# Altium integrated library TI_Logic_Specialty_Logic.IntLib: 2504 symbols (part 30 of 81)
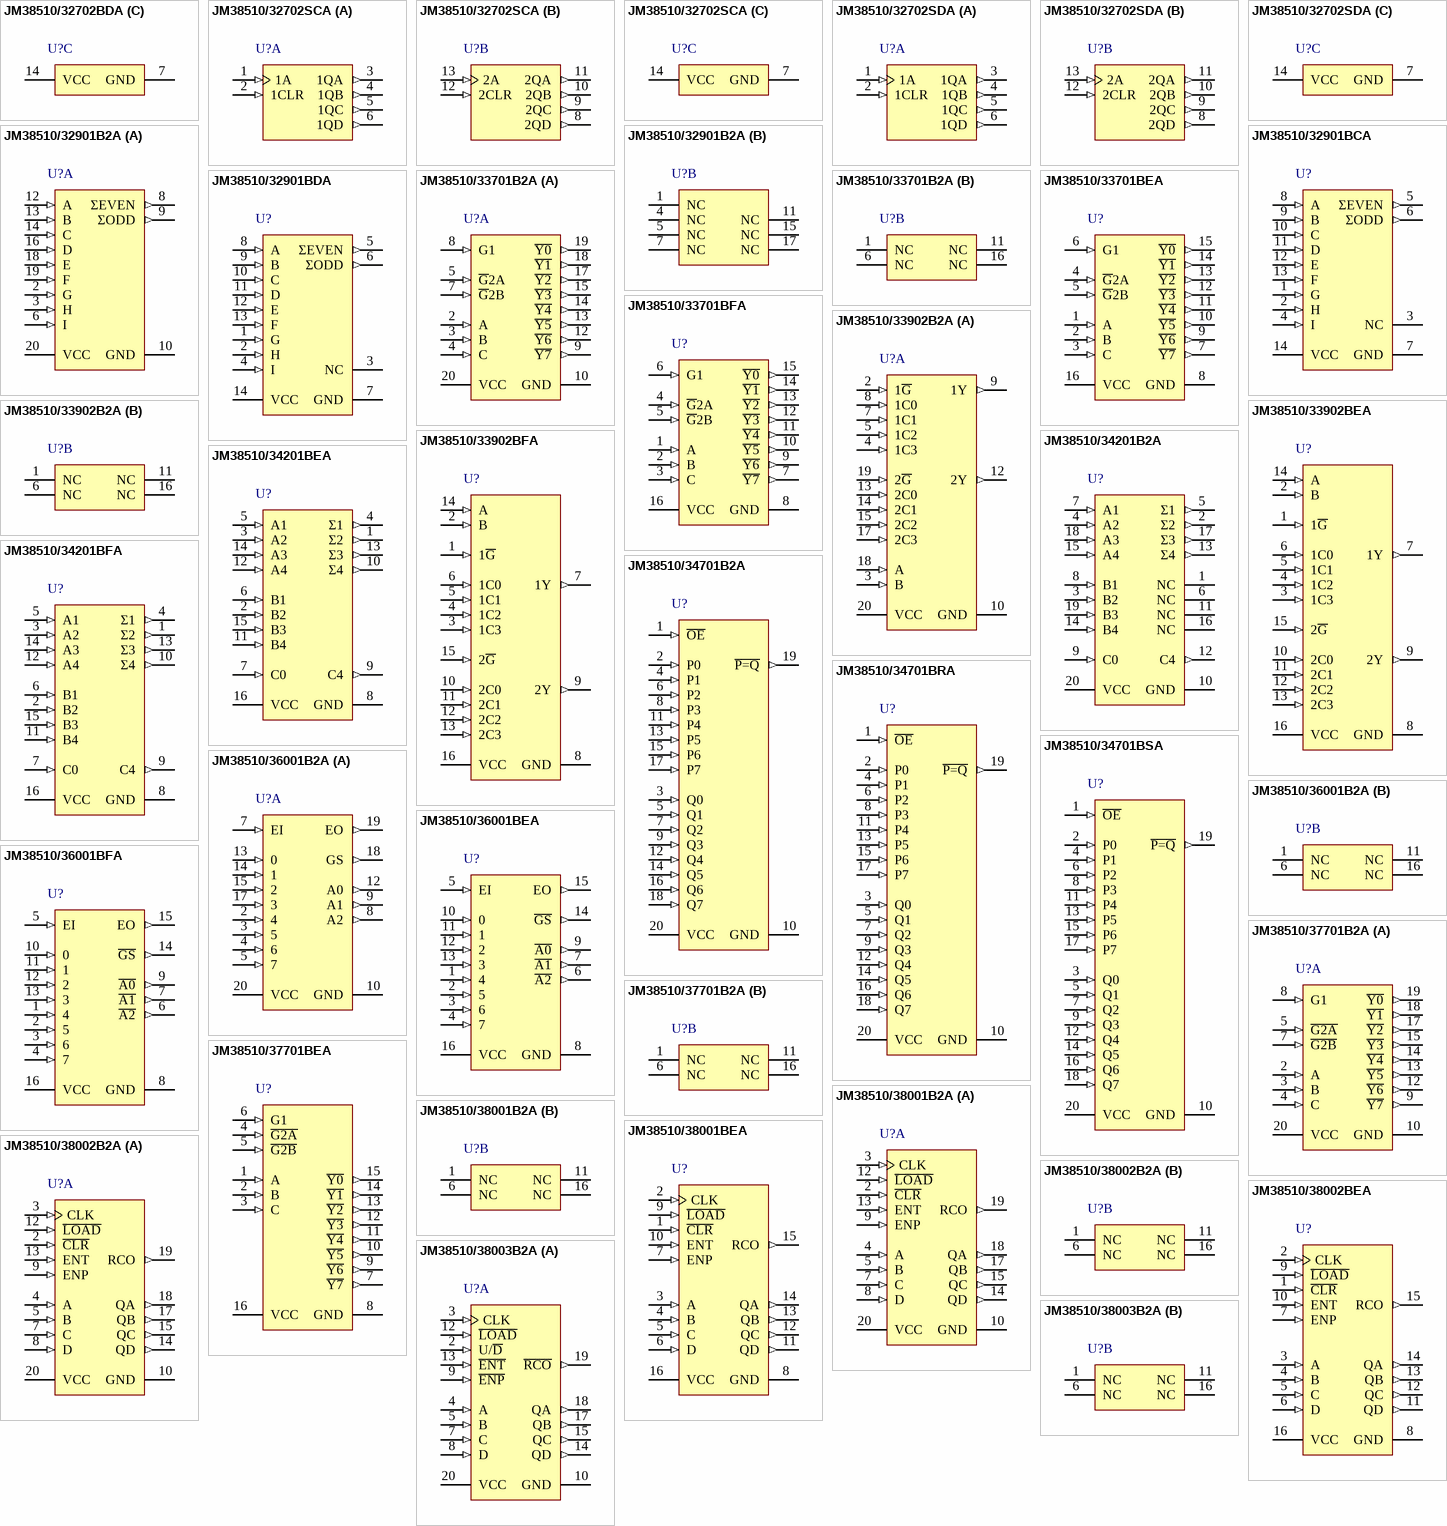
[diagram p133: symbols JM38510/32702BDA to JM38510/38003B2A]

## JM38510/34701BRA
designator U?
8-Bit Identity/Magnitude Comparators (P=Q) with Enable, J0020A, TUBE; Generic Part Number: SN54F521; Manufacturer: Texas Instruments; PartNumber: JM38510/34701BRA; VCC(Min)(V): 4.5; VCC(Max)(V): 5.5; Output Type: TTL; ICC @ Nom Voltage(Max)(mA): 32; Bits(#): 8; Rating: Military; Technology Family: F; Output Drive (IOL/IOH)(Max)(mA): 20/-1; tpd @ Nom Voltage(Max)(ns): 11; DatasheetVersion: SDFS091; PackageReference: J0020A; Input Type: TTL; Operating Temperature Range(C): -55 to 125; ComponentLink1Description: Manufacturer URL; ComponentLink1URL: http://www.ti.com/; ComponentLink2Description: Datasheet; ComponentLink2URL: http://www.ti.com/lit/ds/symlink/sn54f521.pdf
footprint J0020A (DIP, 20-Leads, Body 26.9x7.2mm, Pitch 2.54mm)
pins: 1 ~{OE} (in), 2 P0 (in), 3 Q0 (in), 4 P1 (in), 5 Q1 (in), 6 P2 (in), 7 Q2 (in), 8 P3 (in), 9 Q3 (in), 10 GND (power), 11 P4 (in), 12 Q4 (in), 13 P5 (in), 14 Q5 (in), 15 P6 (in), 16 Q6 (in), 17 P7 (in), 18 Q7 (in), 19 ~{P=Q} (out), 20 VCC (power)

## JM38510/34701BSA
designator U?
8-Bit Identity/Magnitude Comparators (P=Q) with Enable, W0020A, TUBE; Generic Part Number: SN54F521; Manufacturer: Texas Instruments; PartNumber: JM38510/34701BSA; VCC(Min)(V): 4.5; VCC(Max)(V): 5.5; Output Type: TTL; ICC @ Nom Voltage(Max)(mA): 32; Bits(#): 8; Rating: Military; Technology Family: F; Output Drive (IOL/IOH)(Max)(mA): 20/-1; tpd @ Nom Voltage(Max)(ns): 11; DatasheetVersion: SDFS091; PackageReference: W0020A; Input Type: TTL; Operating Temperature Range(C): -55 to 125; ComponentLink1Description: Manufacturer URL; ComponentLink1URL: http://www.ti.com/; ComponentLink2Description: Datasheet; ComponentLink2URL: http://www.ti.com/lit/ds/symlink/sn54f521.pdf
footprint W0020A_N (CFP, 20-Leads, Body 13.72x7.62mm, Pitch 1.27mm, IPC Medium Density)
footprint W0020A_M (CFP, 20-Leads, Body 13.72x7.62mm, Pitch 1.27mm, IPC Low Density)
footprint W0020A_L (CFP, 20-Leads, Body 13.72x7.62mm, Pitch 1.27mm, IPC High Density)
pins: 1 ~{OE} (in), 2 P0 (in), 3 Q0 (in), 4 P1 (in), 5 Q1 (in), 6 P2 (in), 7 Q2 (in), 8 P3 (in), 9 Q3 (in), 10 GND (power), 11 P4 (in), 12 Q4 (in), 13 P5 (in), 14 Q5 (in), 15 P6 (in), 16 Q6 (in), 17 P7 (in), 18 Q7 (in), 19 ~{P=Q} (out), 20 VCC (power)

## JM38510/36001B2A
designator U?
10-Line To 4-Line And 8-Line To 3-Line Priority Encoders, FK0020A, TUBE; Generic Part Number: SN54LS148; Manufacturer: Texas Instruments; PartNumber: JM38510/36001B2A; VCC(Min)(V): 4.5; VCC(Max)(V): 5.5; Rating: Military; Technology Family: LS; Schmitt Trigger: No; DatasheetVersion: SDLS053B; PackageReference: FK0020A; Operating Temperature Range(C): -55 to 125; Code_JEDEC: MS-004; ComponentLink1Description: Manufacturer URL; ComponentLink1URL: http://www.ti.com/; ComponentLink2Description: Datasheet; ComponentLink2URL: http://www.ti.com/lit/ds/symlink/sn54ls148.pdf; ComponentLink3Description: Package Specification; ComponentLink3URL: http://www.ti.com/lit/ml/mlcc006d/mlcc006d.pdf
footprint FK0020A_N (LCC, 20-Leads, Body 8.9x8.9mm, Pitch 1.27mm, IPC Medium Density)
footprint FK0020A_M (LCC, 20-Leads, Body 8.9x8.9mm, Pitch 1.27mm, IPC Low Density)
footprint FK0020A_L (LCC, 20-Leads, Body 8.9x8.9mm, Pitch 1.27mm, IPC High Density)
part A pins: 2 4 (in), 3 5 (in), 4 6 (in), 5 7 (in), 7 EI (in), 8 A2 (out), 9 A1 (out), 10 GND (power), 12 A0 (out), 13 0 (in), 14 1 (in), 15 2 (in), 17 3 (in), 18 GS (out), 19 EO (out), 20 VCC (power)
part B pins: 1 NC, 6 NC, 11 NC, 16 NC

## JM38510/36001BEA
designator U?
10-Line To 4-Line And 8-Line To 3-Line Priority Encoders, J0016A, TUBE; Generic Part Number: SN54LS148; Manufacturer: Texas Instruments; PartNumber: JM38510/36001BEA; VCC(Min)(V): 4.5; VCC(Max)(V): 5.5; Rating: Military; Technology Family: LS; Schmitt Trigger: No; DatasheetVersion: SDLS053B; PackageReference: J0016A; Operating Temperature Range(C): -55 to 125; ComponentLink1Description: Manufacturer URL; ComponentLink1URL: http://www.ti.com/; ComponentLink2Description: Datasheet; ComponentLink2URL: http://www.ti.com/lit/ds/symlink/sn54ls148.pdf; ComponentLink3Description: Package Specification; ComponentLink3URL: http://www.ti.com/lit/ml/mcer002d/mcer002d.pdf
footprint J0016A (DIP, 16-Leads, Body 21.35x7.2mm, Pitch 2.54mm)
pins: 1 4 (in), 2 5 (in), 3 6 (in), 4 7 (in), 5 EI (in), 6 ~{A2} (out), 7 ~{A1} (out), 8 GND (power), 9 ~{A0} (out), 10 0 (in), 11 1 (in), 12 2 (in), 13 3 (in), 14 ~{GS} (out), 15 EO (out), 16 VCC (power)

## JM38510/36001BFA
designator U?
10-Line To 4-Line And 8-Line To 3-Line Priority Encoders, W0016A, TUBE; Generic Part Number: SN54LS148; Manufacturer: Texas Instruments; PartNumber: JM38510/36001BFA; VCC(Min)(V): 4.5; VCC(Max)(V): 5.5; Rating: Military; Technology Family: LS; Schmitt Trigger: No; DatasheetVersion: SDLS053B; PackageReference: W0016A; Operating Temperature Range(C): -55 to 125; ComponentLink1Description: Manufacturer URL; ComponentLink1URL: http://www.ti.com/; ComponentLink2Description: Datasheet; ComponentLink2URL: http://www.ti.com/lit/ds/symlink/sn54ls148.pdf; ComponentLink3Description: Package Specification; ComponentLink3URL: http://www.ti.com/lit/ml/mcfp004c/mcfp004c.pdf
footprint W0016A_N (CFP, 16-Leads, Body 10.92x7.24mm, Pitch 1.27mm, IPC Medium Density)
footprint W0016A_M (CFP, 16-Leads, Body 10.92x7.24mm, Pitch 1.27mm, IPC Low Density)
footprint W0016A_L (CFP, 16-Leads, Body 10.92x7.24mm, Pitch 1.27mm, IPC High Density)
pins: 1 4 (in), 2 5 (in), 3 6 (in), 4 7 (in), 5 EI (in), 6 ~{A2} (out), 7 ~{A1} (out), 8 GND (power), 9 ~{A0} (out), 10 0 (in), 11 1 (in), 12 2 (in), 13 3 (in), 14 ~{GS} (out), 15 EO (out), 16 VCC (power)

## JM38510/37701B2A
designator U?
3-Line To 8-Line Decoders/Demultiplexers, FK0020A, TUBE; Generic Part Number: SN54ALS138A; Manufacturer: Texas Instruments; PartNumber: JM38510/37701B2A; VCC(Min)(V): 4.5; VCC(Max)(V): 5.5; Rating: Military; Technology Family: ALS; Schmitt Trigger: No; DatasheetVersion: SDAS055E; PackageReference: FK0020A; Operating Temperature Range(C): -55 to 125; Code_JEDEC: MS-004; ComponentLink1Description: Manufacturer URL; ComponentLink1URL: http://www.ti.com/; ComponentLink2Description: Datasheet; ComponentLink2URL: http://www.ti.com/lit/ds/symlink/sn54als138a.pdf; ComponentLink3Description: Package Specification; ComponentLink3URL: http://www.ti.com/lit/ml/mlcc006d/mlcc006d.pdf
footprint FK0020A_N (LCC, 20-Leads, Body 8.9x8.9mm, Pitch 1.27mm, IPC Medium Density)
footprint FK0020A_M (LCC, 20-Leads, Body 8.9x8.9mm, Pitch 1.27mm, IPC Low Density)
footprint FK0020A_L (LCC, 20-Leads, Body 8.9x8.9mm, Pitch 1.27mm, IPC High Density)
part A pins: 2 A (in), 3 B (in), 4 C (in), 5 ~{G2A} (in), 7 ~{G2B} (in), 8 G1 (in), 9 ~{Y7} (out), 10 GND (power), 12 ~{Y6} (out), 13 ~{Y5} (out), 14 ~{Y4} (out), 15 ~{Y3} (out), 17 ~{Y2} (out), 18 ~{Y1} (out), 19 ~{Y0} (out), 20 VCC (power)
part B pins: 1 NC, 6 NC, 11 NC, 16 NC

## JM38510/37701BEA
designator U?
3-Line To 8-Line Decoders/Demultiplexers, J0016A, TUBE; Generic Part Number: SN54ALS138A; Manufacturer: Texas Instruments; PartNumber: JM38510/37701BEA; VCC(Min)(V): 4.5; VCC(Max)(V): 5.5; Rating: Military; Technology Family: ALS; Schmitt Trigger: No; DatasheetVersion: SDAS055E; PackageReference: J0016A; Operating Temperature Range(C): -55 to 125; ComponentLink1Description: Manufacturer URL; ComponentLink1URL: http://www.ti.com/; ComponentLink2Description: Datasheet; ComponentLink2URL: http://www.ti.com/lit/ds/symlink/sn54als138a.pdf; ComponentLink3Description: Package Specification; ComponentLink3URL: http://www.ti.com/lit/ml/mcer002d/mcer002d.pdf
footprint J0016A (DIP, 16-Leads, Body 21.35x7.2mm, Pitch 2.54mm)
pins: 1 A (in), 2 B (in), 3 C (in), 4 ~{G2A} (in), 5 ~{G2B} (in), 6 G1 (in), 7 ~{Y7} (out), 8 GND (power), 9 ~{Y6} (out), 10 ~{Y5} (out), 11 ~{Y4} (out), 12 ~{Y3} (out), 13 ~{Y2} (out), 14 ~{Y1} (out), 15 ~{Y0} (out), 16 VCC (power)

## JM38510/38001B2A
designator U?
Synchronous 4-Bit Binary Counters, FK0020A, TUBE; Generic Part Number: SN54ALS161B; Manufacturer: Texas Instruments; PartNumber: JM38510/38001B2A; VCC(Min)(V): 4.5; VCC(Max)(V): 5.5; Inputs: 1; ICC @ Nom Voltage(Max)(mA): 21; Bits(#): 4; F @ Nom Voltage(Max)(Mhz): 75; Rating: Military; Technology Family: ALS; Output Drive (IOL/IOH)(Max)(mA): 8/-0.4; tpd @ Nom Voltage(Max)(ns): 20; DatasheetVersion: SDAS276A; PackageReference: FK0020A; Function: Counter; Operating Temperature Range(C): -55 to 125; Type: Binary; Code_JEDEC: MS-004; ComponentLink1Description: Manufacturer URL; ComponentLink1URL: http://www.ti.com/; ComponentLink2Description: Datasheet; ComponentLink2URL: http://www.ti.com/lit/ds/symlink/sn54als161b.pdf; ComponentLink3Description: Package Specification; ComponentLink3URL: http://www.ti.com/lit/ml/mlcc006d/mlcc006d.pdf
footprint FK0020A_N (LCC, 20-Leads, Body 8.9x8.9mm, Pitch 1.27mm, IPC Medium Density)
footprint FK0020A_M (LCC, 20-Leads, Body 8.9x8.9mm, Pitch 1.27mm, IPC Low Density)
footprint FK0020A_L (LCC, 20-Leads, Body 8.9x8.9mm, Pitch 1.27mm, IPC High Density)
part A pins: 2 ~{CLR} (in), 3 CLK (in), 4 A (in), 5 B (in), 7 C (in), 8 D (in), 9 ENP (in), 10 GND (power), 12 ~{LOAD} (in), 13 ENT (in), 14 QD (out), 15 QC (out), 17 QB (out), 18 QA (out), 19 RCO (out), 20 VCC (power)
part B pins: 1 NC, 6 NC, 11 NC, 16 NC

## JM38510/38001BEA
designator U?
Synchronous 4-Bit Binary Counters, J0016A, TUBE; Generic Part Number: SN54ALS161B; Manufacturer: Texas Instruments; PartNumber: JM38510/38001BEA; VCC(Min)(V): 4.5; VCC(Max)(V): 5.5; Inputs: 1; ICC @ Nom Voltage(Max)(mA): 21; Bits(#): 4; F @ Nom Voltage(Max)(Mhz): 75; Rating: Military; Technology Family: ALS; Output Drive (IOL/IOH)(Max)(mA): 8/-0.4; tpd @ Nom Voltage(Max)(ns): 20; DatasheetVersion: SDAS276A; PackageReference: J0016A; Function: Counter; Operating Temperature Range(C): -55 to 125; Type: Binary; ComponentLink1Description: Manufacturer URL; ComponentLink1URL: http://www.ti.com/; ComponentLink2Description: Datasheet; ComponentLink2URL: http://www.ti.com/lit/ds/symlink/sn54als161b.pdf; ComponentLink3Description: Package Specification; ComponentLink3URL: http://www.ti.com/lit/ml/mcer002d/mcer002d.pdf
footprint J0016A (DIP, 16-Leads, Body 21.35x7.2mm, Pitch 2.54mm)
pins: 1 ~{CLR} (in), 2 CLK (in), 3 A (in), 4 B (in), 5 C (in), 6 D (in), 7 ENP (in), 8 GND (power), 9 ~{LOAD} (in), 10 ENT (in), 11 QD (out), 12 QC (out), 13 QB (out), 14 QA (out), 15 RCO (out), 16 VCC (power)

## JM38510/38002B2A
designator U?
Synchronous 4-Bit Binary Counters, FK0020A, TUBE; Generic Part Number: SN54ALS163B; Manufacturer: Texas Instruments; PartNumber: JM38510/38002B2A; VCC(Min)(V): 4.5; VCC(Max)(V): 5.5; Inputs: 1; ICC @ Nom Voltage(Max)(mA): 21; Bits(#): 4; F @ Nom Voltage(Max)(Mhz): 75; Rating: Military; Technology Family: ALS; Output Drive (IOL/IOH)(Max)(mA): 8/-0.4; tpd @ Nom Voltage(Max)(ns): 20; DatasheetVersion: SDAS276A; PackageReference: FK0020A; Function: Counter; Operating Temperature Range(C): -55 to 125; Type: Binary; Code_JEDEC: MS-004; ComponentLink1Description: Manufacturer URL; ComponentLink1URL: http://www.ti.com/; ComponentLink2Description: Datasheet; ComponentLink2URL: http://www.ti.com/lit/ds/symlink/sn54als163b.pdf; ComponentLink3Description: Package Specification; ComponentLink3URL: http://www.ti.com/lit/ml/mlcc006d/mlcc006d.pdf
footprint FK0020A_N (LCC, 20-Leads, Body 8.9x8.9mm, Pitch 1.27mm, IPC Medium Density)
footprint FK0020A_M (LCC, 20-Leads, Body 8.9x8.9mm, Pitch 1.27mm, IPC Low Density)
footprint FK0020A_L (LCC, 20-Leads, Body 8.9x8.9mm, Pitch 1.27mm, IPC High Density)
part A pins: 2 ~{CLR} (in), 3 CLK (in), 4 A (in), 5 B (in), 7 C (in), 8 D (in), 9 ENP (in), 10 GND (power), 12 ~{LOAD} (in), 13 ENT (in), 14 QD (out), 15 QC (out), 17 QB (out), 18 QA (out), 19 RCO (out), 20 VCC (power)
part B pins: 1 NC, 6 NC, 11 NC, 16 NC

## JM38510/38002BEA
designator U?
Synchronous 4-Bit Binary Counters, J0016A, TUBE; Generic Part Number: SN54ALS163B; Manufacturer: Texas Instruments; PartNumber: JM38510/38002BEA; VCC(Min)(V): 4.5; VCC(Max)(V): 5.5; Inputs: 1; ICC @ Nom Voltage(Max)(mA): 21; Bits(#): 4; F @ Nom Voltage(Max)(Mhz): 75; Rating: Military; Technology Family: ALS; Output Drive (IOL/IOH)(Max)(mA): 8/-0.4; tpd @ Nom Voltage(Max)(ns): 20; DatasheetVersion: SDAS276A; PackageReference: J0016A; Function: Counter; Operating Temperature Range(C): -55 to 125; Type: Binary; ComponentLink1Description: Manufacturer URL; ComponentLink1URL: http://www.ti.com/; ComponentLink2Description: Datasheet; ComponentLink2URL: http://www.ti.com/lit/ds/symlink/sn54als163b.pdf; ComponentLink3Description: Package Specification; ComponentLink3URL: http://www.ti.com/lit/ml/mcer002d/mcer002d.pdf
footprint J0016A (DIP, 16-Leads, Body 21.35x7.2mm, Pitch 2.54mm)
pins: 1 ~{CLR} (in), 2 CLK (in), 3 A (in), 4 B (in), 5 C (in), 6 D (in), 7 ENP (in), 8 GND (power), 9 ~{LOAD} (in), 10 ENT (in), 11 QD (out), 12 QC (out), 13 QB (out), 14 QA (out), 15 RCO (out), 16 VCC (power)

## JM38510/38003B2A
designator U?
Synchronous 4-Bit Up/Down Binary Counters, FK0020A, TUBE; Generic Part Number: SN54ALS169B; Manufacturer: Texas Instruments; PartNumber: JM38510/38003B2A; VCC(Min)(V): 4.5; VCC(Max)(V): 5.5; Inputs: 1; ICC @ Nom Voltage(Max)(mA): 25; Bits(#): 4; F @ Nom Voltage(Max)(Mhz): 75; Rating: Military; Technology Family: ALS; Output Drive (IOL/IOH)(Max)(mA): 8/-0.4; tpd @ Nom Voltage(Max)(ns): 20; DatasheetVersion: SDAS125B; PackageReference: FK0020A; Function: Counter; Operating Temperature Range(C): -55 to 125; Type: Binary; Code_JEDEC: MS-004; ComponentLink1Description: Manufacturer URL; ComponentLink1URL: http://www.ti.com/; ComponentLink2Description: Datasheet; ComponentLink2URL: http://www.ti.com/lit/ds/symlink/sn54als169b.pdf; ComponentLink3Description: Package Specification; ComponentLink3URL: http://www.ti.com/lit/ml/mlcc006d/mlcc006d.pdf
footprint FK0020A_N (LCC, 20-Leads, Body 8.9x8.9mm, Pitch 1.27mm, IPC Medium Density)
footprint FK0020A_M (LCC, 20-Leads, Body 8.9x8.9mm, Pitch 1.27mm, IPC Low Density)
footprint FK0020A_L (LCC, 20-Leads, Body 8.9x8.9mm, Pitch 1.27mm, IPC High Density)
part A pins: 2 U/~{D} (in), 3 CLK (in), 4 A (in), 5 B (in), 7 C (in), 8 D (in), 9 ~{ENP} (in), 10 GND (power), 12 ~{LOAD} (in), 13 ~{ENT} (in), 14 QD (out), 15 QC (out), 17 QB (out), 18 QA (out), 19 ~{RCO} (out), 20 VCC (power)
part B pins: 1 NC, 6 NC, 11 NC, 16 NC

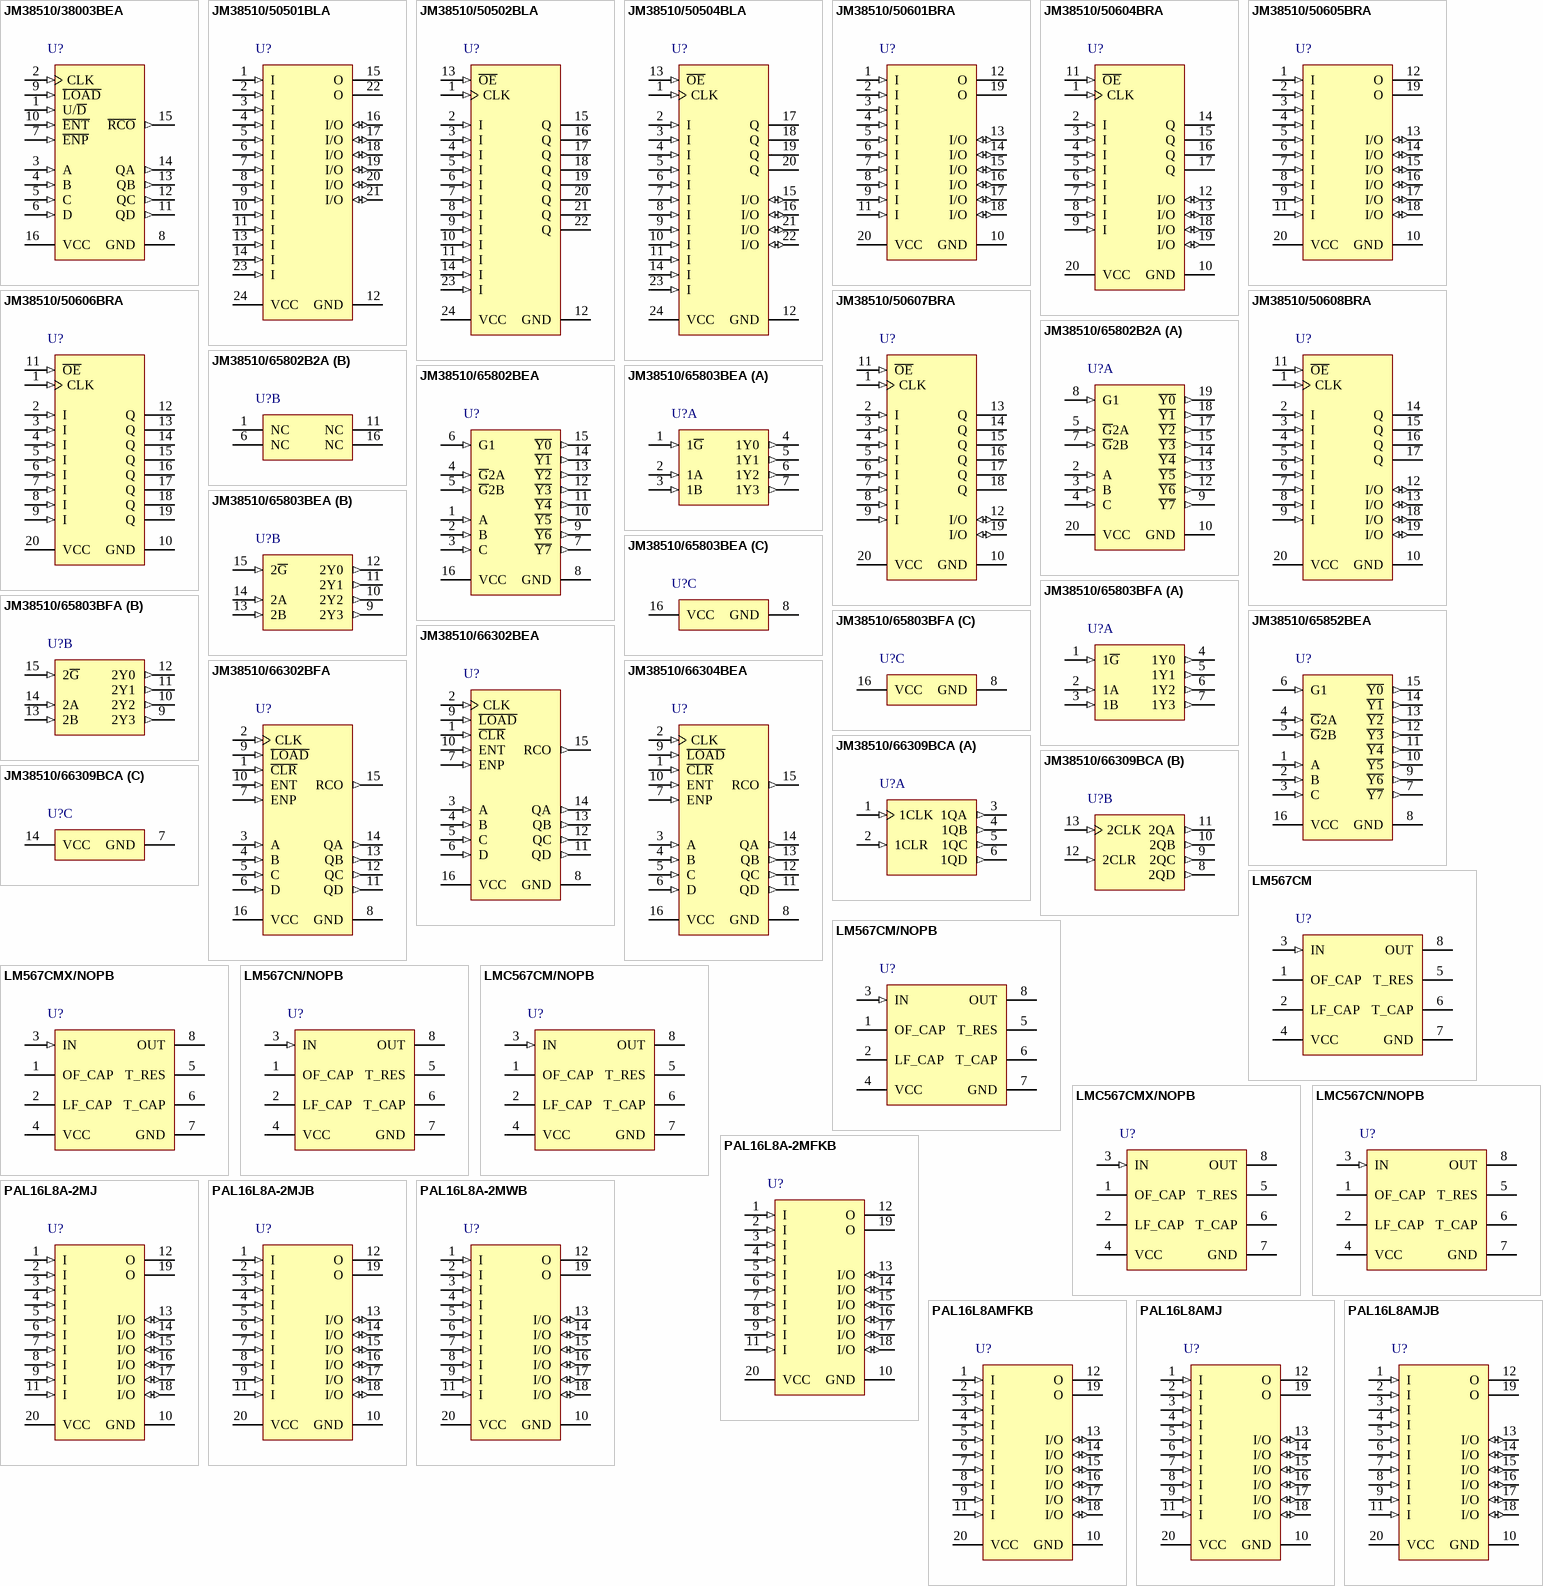
[diagram p41: symbols JM38510/38003BEA to PAL16L8AMJB]

## JM38510/38003BEA
designator U?
Synchronous 4-Bit Up/Down Binary Counters, J0016A, TUBE; Generic Part Number: SN54ALS169B; Manufacturer: Texas Instruments; PartNumber: JM38510/38003BEA; VCC(Min)(V): 4.5; VCC(Max)(V): 5.5; Inputs: 1; ICC @ Nom Voltage(Max)(mA): 25; Bits(#): 4; F @ Nom Voltage(Max)(Mhz): 75; Rating: Military; Technology Family: ALS; Output Drive (IOL/IOH)(Max)(mA): 8/-0.4; tpd @ Nom Voltage(Max)(ns): 20; DatasheetVersion: SDAS125B; PackageReference: J0016A; Function: Counter; Operating Temperature Range(C): -55 to 125; Type: Binary; ComponentLink1Description: Manufacturer URL; ComponentLink1URL: http://www.ti.com/; ComponentLink2Description: Datasheet; ComponentLink2URL: http://www.ti.com/lit/ds/symlink/sn54als169b.pdf; ComponentLink3Description: Package Specification; ComponentLink3URL: http://www.ti.com/lit/ml/mcer002d/mcer002d.pdf
footprint J0016A (DIP, 16-Leads, Body 21.35x7.2mm, Pitch 2.54mm)
pins: 1 U/~{D} (in), 2 CLK (in), 3 A (in), 4 B (in), 5 C (in), 6 D (in), 7 ~{ENP} (in), 8 GND (power), 9 ~{LOAD} (in), 10 ~{ENT} (in), 11 QD (out), 12 QC (out), 13 QB (out), 14 QA (out), 15 ~{RCO} (out), 16 VCC (power)

## JM38510/50501BLA
designator U?
High-Performance Impact<TM> PAL<R> Circuits, JT0024A, TUBE; Generic Part Number: TIBPAL20L8-20M; Manufacturer: Texas Instruments; PartNumber: JM38510/50501BLA; Voltage Node(Nom)(V): 5; Rating: Military; DatasheetVersion: SRPS021A; PackageReference: JT0024A; Operating Temperature Range(C): -55 to 125; ComponentLink1Description: Manufacturer URL; ComponentLink1URL: http://www.ti.com/; ComponentLink2Description: Datasheet; ComponentLink2URL: http://www.ti.com/lit/ds/symlink/tibpal20l8-20m.pdf
footprint JT0024A (DIP, 24-Leads, Body 7.2x32.5mm, Pitch 2.54mm)
pins: 1 I (in), 2 I (in), 3 I (in), 4 I (in), 5 I (in), 6 I (in), 7 I (in), 8 I (in), 9 I (in), 10 I (in), 11 I (in), 12 GND (power), 13 I (in), 14 I (in), 15 O (hiz), 16 I/O (io), 17 I/O (io), 18 I/O (io), 19 I/O (io), 20 I/O (io), 21 I/O (io), 22 O (hiz), 23 I (in), 24 VCC (power)

## JM38510/50502BLA
designator U?
High-Performance Impact<TM> PAL<R> Circuits, JT0024A, TUBE; Generic Part Number: TIBPAL20R8-20M; Manufacturer: Texas Instruments; PartNumber: JM38510/50502BLA; Voltage Node(Nom)(V): 5; Rating: Military; DatasheetVersion: SRPS021A; PackageReference: JT0024A; Operating Temperature Range(C): -55 to 125; ComponentLink1Description: Manufacturer URL; ComponentLink1URL: http://www.ti.com/; ComponentLink2Description: Datasheet; ComponentLink2URL: http://www.ti.com/lit/ds/symlink/tibpal20r8-20m.pdf
footprint JT0024A (DIP, 24-Leads, Body 7.2x32.5mm, Pitch 2.54mm)
pins: 1 CLK (in), 2 I (in), 3 I (in), 4 I (in), 5 I (in), 6 I (in), 7 I (in), 8 I (in), 9 I (in), 10 I (in), 11 I (in), 12 GND (power), 13 ~{OE} (in), 14 I (in), 15 Q (hiz), 16 Q (hiz), 17 Q (hiz), 18 Q (hiz), 19 Q (hiz), 20 Q (hiz), 21 Q (hiz), 22 Q (hiz), 23 I (in), 24 VCC (power)

## JM38510/50504BLA
designator U?
High-Performance Impact<TM> PAL<R> Circuits, JT0024A, TUBE; Generic Part Number: TIBPAL20R4-20M; Manufacturer: Texas Instruments; PartNumber: JM38510/50504BLA; Voltage Node(Nom)(V): 5; Rating: Military; DatasheetVersion: SRPS021A; PackageReference: JT0024A; Operating Temperature Range(C): -55 to 125; ComponentLink1Description: Manufacturer URL; ComponentLink1URL: http://www.ti.com/; ComponentLink2Description: Datasheet; ComponentLink2URL: http://www.ti.com/lit/ds/symlink/tibpal20r4-20m.pdf
footprint JT0024A (DIP, 24-Leads, Body 7.2x32.5mm, Pitch 2.54mm)
pins: 1 CLK (in), 2 I (in), 3 I (in), 4 I (in), 5 I (in), 6 I (in), 7 I (in), 8 I (in), 9 I (in), 10 I (in), 11 I (in), 12 GND (power), 13 ~{OE} (in), 14 I (in), 15 I/O (io), 16 I/O (io), 17 Q (hiz), 18 Q (hiz), 19 Q (hiz), 20 Q (hiz), 21 I/O (io), 22 I/O (io), 23 I (in), 24 VCC (power)

## JM38510/50601BRA
designator U?
High-Performance Impact<TM> PAL<R> Circuits, J0020A, TUBE; Generic Part Number: TIBPAL16L8-20M; Manufacturer: Texas Instruments; PartNumber: JM38510/50601BRA; Voltage Node(Nom)(V): 5; Rating: Military; DatasheetVersion: SRPS019A; PackageReference: J0020A; Operating Temperature Range(C): -55 to 125; ComponentLink1Description: Manufacturer URL; ComponentLink1URL: http://www.ti.com/; ComponentLink2Description: Datasheet; ComponentLink2URL: http://www.ti.com/lit/ds/symlink/tibpal16l8-20m.pdf
footprint J0020A (DIP, 20-Leads, Body 26.9x7.2mm, Pitch 2.54mm)
pins: 1 I (in), 2 I (in), 3 I (in), 4 I (in), 5 I (in), 6 I (in), 7 I (in), 8 I (in), 9 I (in), 10 GND (power), 11 I (in), 12 O (hiz), 13 I/O (io), 14 I/O (io), 15 I/O (io), 16 I/O (io), 17 I/O (io), 18 I/O (io), 19 O (hiz), 20 VCC (power)

## JM38510/50604BRA
designator U?
High-Performance Impact<TM> PAL<R> Circuits, J0020A, TUBE; Generic Part Number: TIBPAL16R4-20M; Manufacturer: Texas Instruments; PartNumber: JM38510/50604BRA; Voltage Node(Nom)(V): 5; Rating: Military; DatasheetVersion: SRPS019A; PackageReference: J0020A; Operating Temperature Range(C): -55 to 125; ComponentLink1Description: Manufacturer URL; ComponentLink1URL: http://www.ti.com/; ComponentLink2Description: Datasheet; ComponentLink2URL: http://www.ti.com/lit/ds/symlink/tibpal16r4-20m.pdf
footprint J0020A (DIP, 20-Leads, Body 26.9x7.2mm, Pitch 2.54mm)
pins: 1 CLK (in), 2 I (in), 3 I (in), 4 I (in), 5 I (in), 6 I (in), 7 I (in), 8 I (in), 9 I (in), 10 GND (power), 11 ~{OE} (in), 12 I/O (io), 13 I/O (io), 14 Q (hiz), 15 Q (hiz), 16 Q (hiz), 17 Q (hiz), 18 I/O (io), 19 I/O (io), 20 VCC (power)

## JM38510/50605BRA
designator U?
Low-Power High-Performance Impact<TM> PAL<R> Circuits, J0020A, TUBE; Generic Part Number: TIBPAL16L8-30M; Manufacturer: Texas Instruments; PartNumber: JM38510/50605BRA; Voltage Node(Nom)(V): 5; Rating: Military; DatasheetVersion: SRPS059A; PackageReference: J0020A; Operating Temperature Range(C): -55 to 125; ComponentLink1Description: Manufacturer URL; ComponentLink1URL: http://www.ti.com/; ComponentLink2Description: Datasheet; ComponentLink2URL: http://www.ti.com/lit/ds/symlink/tibpal16l8-30m.pdf
footprint J0020A (DIP, 20-Leads, Body 26.9x7.2mm, Pitch 2.54mm)
pins: 1 I (in), 2 I (in), 3 I (in), 4 I (in), 5 I (in), 6 I (in), 7 I (in), 8 I (in), 9 I (in), 10 GND (power), 11 I (in), 12 O (hiz), 13 I/O (io), 14 I/O (io), 15 I/O (io), 16 I/O (io), 17 I/O (io), 18 I/O (io), 19 O (hiz), 20 VCC (power)

## JM38510/50606BRA
designator U?
Low-Power High-Performance Impact<TM> PAL<R> Circuits, J0020A, TUBE; Generic Part Number: TIBPAL16R8-30M; Manufacturer: Texas Instruments; PartNumber: JM38510/50606BRA; Voltage Node(Nom)(V): 5; Rating: Military; DatasheetVersion: SRPS059A; PackageReference: J0020A; Operating Temperature Range(C): -55 to 125; ComponentLink1Description: Manufacturer URL; ComponentLink1URL: http://www.ti.com/; ComponentLink2Description: Datasheet; ComponentLink2URL: http://www.ti.com/lit/ds/symlink/tibpal16r8-30m.pdf
footprint J0020A (DIP, 20-Leads, Body 26.9x7.2mm, Pitch 2.54mm)
pins: 1 CLK (in), 2 I (in), 3 I (in), 4 I (in), 5 I (in), 6 I (in), 7 I (in), 8 I (in), 9 I (in), 10 GND (power), 11 ~{OE} (in), 12 Q (hiz), 13 Q (hiz), 14 Q (hiz), 15 Q (hiz), 16 Q (hiz), 17 Q (hiz), 18 Q (hiz), 19 Q (hiz), 20 VCC (power)

## JM38510/50607BRA
designator U?
Low-Power High-Performance Impact<TM> PAL<R> Circuits, J0020A, TUBE; Generic Part Number: TIBPAL16R6-30M; Manufacturer: Texas Instruments; PartNumber: JM38510/50607BRA; Voltage Node(Nom)(V): 5; Rating: Military; DatasheetVersion: SRPS059A; PackageReference: J0020A; Operating Temperature Range(C): -55 to 125; ComponentLink1Description: Manufacturer URL; ComponentLink1URL: http://www.ti.com/; ComponentLink2Description: Datasheet; ComponentLink2URL: http://www.ti.com/lit/ds/symlink/tibpal16r6-30m.pdf
footprint J0020A (DIP, 20-Leads, Body 26.9x7.2mm, Pitch 2.54mm)
pins: 1 CLK (in), 2 I (in), 3 I (in), 4 I (in), 5 I (in), 6 I (in), 7 I (in), 8 I (in), 9 I (in), 10 GND (power), 11 ~{OE} (in), 12 I/O (io), 13 Q (hiz), 14 Q (hiz), 15 Q (hiz), 16 Q (hiz), 17 Q (hiz), 18 Q (hiz), 19 I/O (io), 20 VCC (power)

## JM38510/50608BRA
designator U?
Low-Power High-Performance Impact<TM> PAL<R> Circuits, J0020A, TUBE; Generic Part Number: TIBPAL16R4-30M; Manufacturer: Texas Instruments; PartNumber: JM38510/50608BRA; Voltage Node(Nom)(V): 5; Rating: Military; DatasheetVersion: SRPS059A; PackageReference: J0020A; Operating Temperature Range(C): -55 to 125; ComponentLink1Description: Manufacturer URL; ComponentLink1URL: http://www.ti.com/; ComponentLink2Description: Datasheet; ComponentLink2URL: http://www.ti.com/lit/ds/symlink/tibpal16r4-30m.pdf
footprint J0020A (DIP, 20-Leads, Body 26.9x7.2mm, Pitch 2.54mm)
pins: 1 CLK (in), 2 I (in), 3 I (in), 4 I (in), 5 I (in), 6 I (in), 7 I (in), 8 I (in), 9 I (in), 10 GND (power), 11 ~{OE} (in), 12 I/O (io), 13 I/O (io), 14 Q (hiz), 15 Q (hiz), 16 Q (hiz), 17 Q (hiz), 18 I/O (io), 19 I/O (io), 20 VCC (power)

## JM38510/65802B2A
designator U?
3-Line To 8-Line Decoders/Demultiplexers, FK0020A, TUBE; Generic Part Number: SN54HC138; Manufacturer: Texas Instruments; PartNumber: JM38510/65802B2A; VCC(Min)(V): 2; VCC(Max)(V): 6; Rating: Military; Technology Family: HC; Schmitt Trigger: No; DatasheetVersion: SCLS107E; PackageReference: FK0020A; Operating Temperature Range(C): -55 to 125; Code_JEDEC: MS-004; ComponentLink1Description: Manufacturer URL; ComponentLink1URL: http://www.ti.com/; ComponentLink2Description: Datasheet; ComponentLink2URL: http://www.ti.com/lit/ds/symlink/sn54hc138.pdf; ComponentLink3Description: Package Specification; ComponentLink3URL: http://www.ti.com/lit/ml/mlcc006d/mlcc006d.pdf
footprint FK0020A_N (LCC, 20-Leads, Body 8.9x8.9mm, Pitch 1.27mm, IPC Medium Density)
footprint FK0020A_M (LCC, 20-Leads, Body 8.9x8.9mm, Pitch 1.27mm, IPC Low Density)
footprint FK0020A_L (LCC, 20-Leads, Body 8.9x8.9mm, Pitch 1.27mm, IPC High Density)
part A pins: 2 A (in), 3 B (in), 4 C (in), 5 ~{G}2A (in), 7 ~{G}2B (in), 8 G1 (in), 9 ~{Y7} (out), 10 GND (power), 12 ~{Y6} (out), 13 ~{Y5} (out), 14 ~{Y4} (out), 15 ~{Y3} (out), 17 ~{Y2} (out), 18 ~{Y1} (out), 19 ~{Y0} (out), 20 VCC (power)
part B pins: 1 NC, 6 NC, 11 NC, 16 NC

## JM38510/65802BEA
designator U?
3-Line To 8-Line Decoders/Demultiplexers, J0016A, TUBE; Generic Part Number: SN54HC138; Manufacturer: Texas Instruments; PartNumber: JM38510/65802BEA; VCC(Min)(V): 2; VCC(Max)(V): 6; Rating: Military; Technology Family: HC; Schmitt Trigger: No; DatasheetVersion: SCLS107E; PackageReference: J0016A; Operating Temperature Range(C): -55 to 125; ComponentLink1Description: Manufacturer URL; ComponentLink1URL: http://www.ti.com/; ComponentLink2Description: Datasheet; ComponentLink2URL: http://www.ti.com/lit/ds/symlink/sn54hc138.pdf; ComponentLink3Description: Package Specification; ComponentLink3URL: http://www.ti.com/lit/ml/mcer002d/mcer002d.pdf
footprint J0016A (DIP, 16-Leads, Body 21.35x7.2mm, Pitch 2.54mm)
pins: 1 A (in), 2 B (in), 3 C (in), 4 ~{G}2A (in), 5 ~{G}2B (in), 6 G1 (in), 7 ~{Y7} (out), 8 GND (power), 9 ~{Y6} (out), 10 ~{Y5} (out), 11 ~{Y4} (out), 12 ~{Y3} (out), 13 ~{Y2} (out), 14 ~{Y1} (out), 15 ~{Y0} (out), 16 VCC (power)

## JM38510/65803BEA
designator U?
Dual 2-Line To 4-Line Decoders/Demultiplexers, J0016A, TUBE; Generic Part Number: SN54HC139; Manufacturer: Texas Instruments; PartNumber: JM38510/65803BEA; VCC(Min)(V): 2; VCC(Max)(V): 6; Rating: Military; Technology Family: HC; Schmitt Trigger: No; DatasheetVersion: SCLS108D; PackageReference: J0016A; Operating Temperature Range(C): -55 to 125; ComponentLink1Description: Manufacturer URL; ComponentLink1URL: http://www.ti.com/; ComponentLink2Description: Datasheet; ComponentLink2URL: http://www.ti.com/lit/ds/symlink/sn54hc139.pdf; ComponentLink3Description: Package Specification; ComponentLink3URL: http://www.ti.com/lit/ml/mcer002d/mcer002d.pdf
footprint J0016A (DIP, 16-Leads, Body 21.35x7.2mm, Pitch 2.54mm)
part A pins: 1 1~{G} (in), 2 1A (in), 3 1B (in), 4 1Y0 (out), 5 1Y1 (out), 6 1Y2 (out), 7 1Y3 (out)
part B pins: 9 2Y3 (out), 10 2Y2 (out), 11 2Y1 (out), 12 2Y0 (out), 13 2B (in), 14 2A (in), 15 2~{G} (in)
part C pins: 8 GND (power), 16 VCC (power)

## JM38510/65803BFA
designator U?
Dual 2-Line To 4-Line Decoders/Demultiplexers, W0016A, TUBE; Generic Part Number: SN54HC139; Manufacturer: Texas Instruments; PartNumber: JM38510/65803BFA; VCC(Min)(V): 2; VCC(Max)(V): 6; Rating: Military; Technology Family: HC; Schmitt Trigger: No; DatasheetVersion: SCLS108D; PackageReference: W0016A; Operating Temperature Range(C): -55 to 125; ComponentLink1Description: Manufacturer URL; ComponentLink1URL: http://www.ti.com/; ComponentLink2Description: Datasheet; ComponentLink2URL: http://www.ti.com/lit/ds/symlink/sn54hc139.pdf; ComponentLink3Description: Package Specification; ComponentLink3URL: http://www.ti.com/lit/ml/mcfp004c/mcfp004c.pdf
footprint W0016A_N (CFP, 16-Leads, Body 10.92x7.24mm, Pitch 1.27mm, IPC Medium Density)
footprint W0016A_M (CFP, 16-Leads, Body 10.92x7.24mm, Pitch 1.27mm, IPC Low Density)
footprint W0016A_L (CFP, 16-Leads, Body 10.92x7.24mm, Pitch 1.27mm, IPC High Density)
part A pins: 1 1~{G} (in), 2 1A (in), 3 1B (in), 4 1Y0 (out), 5 1Y1 (out), 6 1Y2 (out), 7 1Y3 (out)
part B pins: 9 2Y3 (out), 10 2Y2 (out), 11 2Y1 (out), 12 2Y0 (out), 13 2B (in), 14 2A (in), 15 2~{G} (in)
part C pins: 8 GND (power), 16 VCC (power)

## JM38510/65852BEA
designator U?
3-Line To 8-Line Decoders/Demultiplexers, J0016A, TUBE; Generic Part Number: SN54HCT138; Manufacturer: Texas Instruments; PartNumber: JM38510/65852BEA; VCC(Min)(V): 4.5; VCC(Max)(V): 5.5; Rating: Military; Technology Family: HCT; Schmitt Trigger: No; DatasheetVersion: SCLS171E; PackageReference: J0016A; Operating Temperature Range(C): -55 to 125; ComponentLink1Description: Manufacturer URL; ComponentLink1URL: http://www.ti.com/; ComponentLink2Description: Datasheet; ComponentLink2URL: http://www.ti.com/lit/ds/symlink/sn54hct138.pdf; ComponentLink3Description: Package Specification; ComponentLink3URL: http://www.ti.com/lit/ml/mcer002d/mcer002d.pdf
footprint J0016A (DIP, 16-Leads, Body 21.35x7.2mm, Pitch 2.54mm)
pins: 1 A (in), 2 B (in), 3 C (in), 4 ~{G}2A (in), 5 ~{G}2B (in), 6 G1 (in), 7 ~{Y7} (out), 8 GND (power), 9 ~{Y6} (out), 10 ~{Y5} (out), 11 ~{Y4} (out), 12 ~{Y3} (out), 13 ~{Y2} (out), 14 ~{Y1} (out), 15 ~{Y0} (out), 16 VCC (power)

## JM38510/66302BEA
designator U?
Synchronous 4-Bit Binary Counters, J0016A, TUBE; Generic Part Number: SN54HC161; Manufacturer: Texas Instruments; PartNumber: JM38510/66302BEA; VCC(Min)(V): 2; VCC(Max)(V): 6; Inputs: 1; ICC @ Nom Voltage(Max)(mA): 0.08; Bits(#): 4; F @ Nom Voltage(Max)(Mhz): 28; Rating: Military; Technology Family: HC; Output Drive (IOL/IOH)(Max)(mA): 5.2/-5.2; tpd @ Nom Voltage(Max)(ns): 46; DatasheetVersion: SCLS297D; PackageReference: J0016A; Function: Counter; Operating Temperature Range(C): -55 to 125; Type: Binary; ComponentLink1Description: Manufacturer URL; ComponentLink1URL: http://www.ti.com/; ComponentLink2Description: Datasheet; ComponentLink2URL: http://www.ti.com/lit/ds/symlink/sn54hc161.pdf; ComponentLink3Description: Package Specification; ComponentLink3URL: http://www.ti.com/lit/ml/mcer002d/mcer002d.pdf
footprint J0016A (DIP, 16-Leads, Body 21.35x7.2mm, Pitch 2.54mm)
pins: 1 ~{CLR} (in), 2 CLK (in), 3 A (in), 4 B (in), 5 C (in), 6 D (in), 7 ENP (in), 8 GND (power), 9 ~{LOAD} (in), 10 ENT (in), 11 QD (out), 12 QC (out), 13 QB (out), 14 QA (out), 15 RCO (out), 16 VCC (power)

## JM38510/66302BFA
designator U?
Synchronous 4-Bit Binary Counters, W0016A, TUBE; Generic Part Number: SN54HC161; Manufacturer: Texas Instruments; PartNumber: JM38510/66302BFA; VCC(Min)(V): 2; VCC(Max)(V): 6; Inputs: 1; ICC @ Nom Voltage(Max)(mA): 0.08; Bits(#): 4; F @ Nom Voltage(Max)(Mhz): 28; Rating: Military; Technology Family: HC; Output Drive (IOL/IOH)(Max)(mA): 5.2/-5.2; tpd @ Nom Voltage(Max)(ns): 46; DatasheetVersion: SCLS297D; PackageReference: W0016A; Function: Counter; Operating Temperature Range(C): -55 to 125; Type: Binary; ComponentLink1Description: Manufacturer URL; ComponentLink1URL: http://www.ti.com/; ComponentLink2Description: Datasheet; ComponentLink2URL: http://www.ti.com/lit/ds/symlink/sn54hc161.pdf; ComponentLink3Description: Package Specification; ComponentLink3URL: http://www.ti.com/lit/ml/mcfp004c/mcfp004c.pdf
footprint W0016A_N (CFP, 16-Leads, Body 10.92x7.24mm, Pitch 1.27mm, IPC Medium Density)
footprint W0016A_M (CFP, 16-Leads, Body 10.92x7.24mm, Pitch 1.27mm, IPC Low Density)
footprint W0016A_L (CFP, 16-Leads, Body 10.92x7.24mm, Pitch 1.27mm, IPC High Density)
pins: 1 ~{CLR} (in), 2 CLK (in), 3 A (in), 4 B (in), 5 C (in), 6 D (in), 7 ENP (in), 8 GND (power), 9 ~{LOAD} (in), 10 ENT (in), 11 QD (out), 12 QC (out), 13 QB (out), 14 QA (out), 15 RCO (out), 16 VCC (power)

## JM38510/66304BEA
designator U?
Synchronous 4-Bit Binary Counters, J0016A, TUBE; Generic Part Number: SN54HC163; Manufacturer: Texas Instruments; PartNumber: JM38510/66304BEA; VCC(Min)(V): 2; VCC(Max)(V): 6; Inputs: 1; ICC @ Nom Voltage(Max)(mA): 0.08; Bits(#): 4; F @ Nom Voltage(Max)(Mhz): 28; Rating: Military; Technology Family: HC; Output Drive (IOL/IOH)(Max)(mA): 5.2/-5.2; tpd @ Nom Voltage(Max)(ns): 46; DatasheetVersion: SCLS298D; PackageReference: J0016A; Function: Counter; Operating Temperature Range(C): -55 to 125; Type: Binary; ComponentLink1Description: Manufacturer URL; ComponentLink1URL: http://www.ti.com/; ComponentLink2Description: Datasheet; ComponentLink2URL: http://www.ti.com/lit/ds/symlink/sn54hc163.pdf; ComponentLink3Description: Package Specification; ComponentLink3URL: http://www.ti.com/lit/ml/mcer002d/mcer002d.pdf
footprint J0016A (DIP, 16-Leads, Body 21.35x7.2mm, Pitch 2.54mm)
pins: 1 ~{CLR} (in), 2 CLK (in), 3 A (in), 4 B (in), 5 C (in), 6 D (in), 7 ENP (in), 8 GND (power), 9 ~{LOAD} (in), 10 ENT (in), 11 QD (out), 12 QC (out), 13 QB (out), 14 QA (out), 15 RCO (out), 16 VCC (power)

## JM38510/66309BCA
designator U?
Dual 4-Bit Binary Counters, J0014A, TUBE; Generic Part Number: SN54HC393; Manufacturer: Texas Instruments; PartNumber: JM38510/66309BCA; VCC(Min)(V): 2; VCC(Max)(V): 6; Inputs: 1; ICC @ Nom Voltage(Max)(mA): 0.08; Bits(#): 4; F @ Nom Voltage(Max)(Mhz): 28; Rating: Military; Technology Family: HC; Output Drive (IOL/IOH)(Max)(mA): 5.2/-5.2; tpd @ Nom Voltage(Max)(ns): 62; DatasheetVersion: SCLS143D; PackageReference: J0014A; Function: Counter; Operating Temperature Range(C): -55 to 125; Type: Binary; ComponentLink1Description: Manufacturer URL; ComponentLink1URL: http://www.ti.com/; ComponentLink2Description: Datasheet; ComponentLink2URL: http://www.ti.com/lit/ds/symlink/sn54hc393.pdf; ComponentLink3Description: Package Specification; ComponentLink3URL: http://www.ti.com/lit/ml/mcer002d/mcer002d.pdf
footprint J0014A (DIP, 14-Leads, Body 19.95x7.2mm, Pitch 2.54mm)
part A pins: 1 1CLK (in), 2 1CLR (in), 3 1QA (out), 4 1QB (out), 5 1QC (out), 6 1QD (out)
part B pins: 8 2QD (out), 9 2QC (out), 10 2QB (out), 11 2QA (out), 12 2CLR (in), 13 2CLK (in)
part C pins: 7 GND (power), 14 VCC (power)

## LM567CM
designator U?
Tone Decoder, D0008A, TUBE; Generic Part Number: LM567C; Manufacturer: Texas Instruments; PartNumber: LM567CM; Rating: Catalog; DatasheetVersion: SNOSBQ4E; PackageReference: D0008A; Supplier 1: Mouser; Supplier Part Number 1: 926-LM567CM; Supplier 2: Digi-Key; Supplier Part Number 2: LM567CM-ND; Operating Temperature Range(C): 0 to 70; ComponentLink1Description: Manufacturer URL; ComponentLink1URL: http://www.ti.com/; ComponentLink2Description: Datasheet; ComponentLink2URL: http://www.ti.com/lit/ds/symlink/lm567c.pdf
footprint D0008A_N (SOIC, 8-Leads, Body 5x4mm, Pitch 1.27mm, IPC Medium Density)
footprint D0008A_M (SOIC, 8-Leads, Body 5x4mm, Pitch 1.27mm, IPC Low Density)
footprint D0008A_L (SOIC, 8-Leads, Body 5x4mm, Pitch 1.27mm, IPC High Density)
pins: 1 OF_CAP "Output filter capacitor pin.", 2 LF_CAP "Loop filter capacitor pin (LPF of the PLL).", 3 IN (in) "Device input.", 4 VCC (power) "Voltage supply pin.", 5 T_RES "Timing resistor connection pin.", 6 T_CAP "Timing capacitor connection pin.", 7 GND (power) "Circuit ground.", 8 OUT (oc) "Timing resistor connection pin."

## LM567CM/NOPB
designator U?
Tone Decoder, D0008A, TUBE; Generic Part Number: LM567C; Manufacturer: Texas Instruments; PartNumber: LM567CM/NOPB; Rating: Catalog; DatasheetVersion: SNOSBQ4E; PackageReference: D0008A; Supplier 1: Mouser; Supplier Part Number 1: 926-LM567CM/NOPB; Supplier 2: Digi-Key; Supplier Part Number 2: LM567CM/NOPB-ND; Operating Temperature Range(C): 0 to 70; ComponentLink1Description: Manufacturer URL; ComponentLink1URL: http://www.ti.com/; ComponentLink2Description: Datasheet; ComponentLink2URL: http://www.ti.com/lit/ds/symlink/lm567c.pdf
footprint D0008A_N (SOIC, 8-Leads, Body 5x4mm, Pitch 1.27mm, IPC Medium Density)
footprint D0008A_M (SOIC, 8-Leads, Body 5x4mm, Pitch 1.27mm, IPC Low Density)
footprint D0008A_L (SOIC, 8-Leads, Body 5x4mm, Pitch 1.27mm, IPC High Density)
pins: 1 OF_CAP "Output filter capacitor pin.", 2 LF_CAP "Loop filter capacitor pin (LPF of the PLL).", 3 IN (in) "Device input.", 4 VCC (power) "Voltage supply pin.", 5 T_RES "Timing resistor connection pin.", 6 T_CAP "Timing capacitor connection pin.", 7 GND (power) "Circuit ground.", 8 OUT (oc) "Timing resistor connection pin."

## LM567CMX/NOPB
designator U?
Tone Decoder, D0008A, LARGE T&R; Generic Part Number: LM567C; Manufacturer: Texas Instruments; PartNumber: LM567CMX/NOPB; Rating: Catalog; DatasheetVersion: SNOSBQ4E; PackageReference: D0008A; Supplier 1: Mouser; Supplier Part Number 1: 926-LM567CMX/NOPB; Supplier 2: Digi-Key; Supplier Part Number 2: 296-38556-2-ND; Supplier 3: Digi-Key; Supplier Part Number 3: 296-38556-1-ND; Supplier 4: Digi-Key; Supplier Part Number 4: 296-38556-6-ND; Operating Temperature Range(C): 0 to 70; ComponentLink1Description: Manufacturer URL; ComponentLink1URL: http://www.ti.com/; ComponentLink2Description: Datasheet; ComponentLink2URL: http://www.ti.com/lit/ds/symlink/lm567c.pdf
footprint D0008A_N (SOIC, 8-Leads, Body 5x4mm, Pitch 1.27mm, IPC Medium Density)
footprint D0008A_M (SOIC, 8-Leads, Body 5x4mm, Pitch 1.27mm, IPC Low Density)
footprint D0008A_L (SOIC, 8-Leads, Body 5x4mm, Pitch 1.27mm, IPC High Density)
pins: 1 OF_CAP "Output filter capacitor pin.", 2 LF_CAP "Loop filter capacitor pin (LPF of the PLL).", 3 IN (in) "Device input.", 4 VCC (power) "Voltage supply pin.", 5 T_RES "Timing resistor connection pin.", 6 T_CAP "Timing capacitor connection pin.", 7 GND (power) "Circuit ground.", 8 OUT (oc) "Timing resistor connection pin."

## LM567CN/NOPB
designator U?
Tone Decoder, P0008A, TUBE; Generic Part Number: LM567C; Manufacturer: Texas Instruments; PartNumber: LM567CN/NOPB; Rating: Catalog; DatasheetVersion: SNOSBQ4E; PackageReference: P0008A; Supplier 1: Mouser; Supplier Part Number 1: 926-LM567CN/NOPB; Supplier 2: Digi-Key; Supplier Part Number 2: LM567CN/NOPB-ND; Operating Temperature Range(C): 0 to 70; ComponentLink1Description: Manufacturer URL; ComponentLink1URL: http://www.ti.com/; ComponentLink2Description: Datasheet; ComponentLink2URL: http://www.ti.com/lit/ds/symlink/lm567c.pdf
footprint P0008A (DIP, 8-Leads, Body 10.15x6.6mm, Pitch 2.54mm)
pins: 1 OF_CAP "Output filter capacitor pin.", 2 LF_CAP "Loop filter capacitor pin (LPF of the PLL).", 3 IN (in) "Device input.", 4 VCC (power) "Voltage supply pin.", 5 T_RES "Timing resistor connection pin.", 6 T_CAP "Timing capacitor connection pin.", 7 GND (power) "Circuit ground.", 8 OUT (oc) "Timing resistor connection pin."

## LMC567CM/NOPB
designator U?
Low Power Tone Decoder, D0008A, TUBE; Generic Part Number: LMC567; Manufacturer: Texas Instruments; PartNumber: LMC567CM/NOPB; Rating: Catalog; DatasheetVersion: SNOSBY1B; PackageReference: D0008A; Supplier 1: Mouser; Supplier Part Number 1: 926-LMC567CM/NOPB; Supplier 2: Digi-Key; Supplier Part Number 2: LMC567CM/NOPB-ND; Operating Temperature Range(C): -25 to 100; ComponentLink1Description: Manufacturer URL; ComponentLink1URL: http://www.ti.com/; ComponentLink2Description: Datasheet; ComponentLink2URL: http://www.ti.com/lit/ds/symlink/lmc567.pdf
footprint D0008A_N (SOIC, 8-Leads, Body 5x4mm, Pitch 1.27mm, IPC Medium Density)
footprint D0008A_M (SOIC, 8-Leads, Body 5x4mm, Pitch 1.27mm, IPC Low Density)
footprint D0008A_L (SOIC, 8-Leads, Body 5x4mm, Pitch 1.27mm, IPC High Density)
pins: 1 OF_CAP "Output filter capacitor pin.", 2 LF_CAP "Loop filter capacitor pin (LPF of the PLL).", 3 IN (in) "Device input.", 4 VCC (power) "Voltage supply pin.", 5 T_RES "Timing resistor connection pin.", 6 T_CAP "Timing capacitor connection pin.", 7 GND (power) "Circuit ground.", 8 OUT (oc) "Timing resistor connection pin."

## LMC567CMX/NOPB
designator U?
Low Power Tone Decoder, D0008A, LARGE T&R; Generic Part Number: LMC567; Manufacturer: Texas Instruments; PartNumber: LMC567CMX/NOPB; Rating: Catalog; DatasheetVersion: SNOSBY1B; PackageReference: D0008A; Supplier 1: Mouser; Supplier Part Number 1: 926-LMC567CMX/NOPB; Supplier 2: Digi-Key; Supplier Part Number 2: LMC567CMX/NOPBTR-ND; Operating Temperature Range(C): -25 to 100; ComponentLink1Description: Manufacturer URL; ComponentLink1URL: http://www.ti.com/; ComponentLink2Description: Datasheet; ComponentLink2URL: http://www.ti.com/lit/ds/symlink/lmc567.pdf
footprint D0008A_N (SOIC, 8-Leads, Body 5x4mm, Pitch 1.27mm, IPC Medium Density)
footprint D0008A_M (SOIC, 8-Leads, Body 5x4mm, Pitch 1.27mm, IPC Low Density)
footprint D0008A_L (SOIC, 8-Leads, Body 5x4mm, Pitch 1.27mm, IPC High Density)
pins: 1 OF_CAP "Output filter capacitor pin.", 2 LF_CAP "Loop filter capacitor pin (LPF of the PLL).", 3 IN (in) "Device input.", 4 VCC (power) "Voltage supply pin.", 5 T_RES "Timing resistor connection pin.", 6 T_CAP "Timing capacitor connection pin.", 7 GND (power) "Circuit ground.", 8 OUT (oc) "Timing resistor connection pin."

## LMC567CN/NOPB
designator U?
Low Power Tone Decoder, P0008A, TUBE; Generic Part Number: LMC567; Manufacturer: Texas Instruments; PartNumber: LMC567CN/NOPB; Rating: Catalog; DatasheetVersion: SNOSBY1B; PackageReference: P0008A; Supplier 1: Mouser; Supplier Part Number 1: 926-LMC567CN/NOPB; Supplier 2: Digi-Key; Supplier Part Number 2: LMC567CN/NOPB-ND; Operating Temperature Range(C): -25 to 100; ComponentLink1Description: Manufacturer URL; ComponentLink1URL: http://www.ti.com/; ComponentLink2Description: Datasheet; ComponentLink2URL: http://www.ti.com/lit/ds/symlink/lmc567.pdf
footprint P0008A (DIP, 8-Leads, Body 10.15x6.6mm, Pitch 2.54mm)
pins: 1 OF_CAP "Output filter capacitor pin.", 2 LF_CAP "Loop filter capacitor pin (LPF of the PLL).", 3 IN (in) "Device input.", 4 VCC (power) "Voltage supply pin.", 5 T_RES "Timing resistor connection pin.", 6 T_CAP "Timing capacitor connection pin.", 7 GND (power) "Circuit ground.", 8 OUT (oc) "Timing resistor connection pin."

## PAL16L8A-2MFKB
designator U?
Standard High-Speed PAL<R> Circuits, FK0020A, TUBE; Generic Part Number: PAL16L8A-2M; Manufacturer: Texas Instruments; PartNumber: PAL16L8A-2MFKB; Voltage Node(Nom)(V): 5; Rating: Military; DatasheetVersion: SRPS016; PackageReference: FK0020A; Operating Temperature Range(C): -55 to 125; Code_JEDEC: MS-004; ComponentLink1Description: Manufacturer URL; ComponentLink1URL: http://www.ti.com/; ComponentLink2Description: Datasheet; ComponentLink2URL: http://www.ti.com/lit/ds/symlink/pal16l8a-2m.pdf; ComponentLink3Description: Package Specification; ComponentLink3URL: http://www.ti.com/lit/ml/mlcc006d/mlcc006d.pdf
footprint FK0020A_N (LCC, 20-Leads, Body 8.9x8.9mm, Pitch 1.27mm, IPC Medium Density)
footprint FK0020A_M (LCC, 20-Leads, Body 8.9x8.9mm, Pitch 1.27mm, IPC Low Density)
footprint FK0020A_L (LCC, 20-Leads, Body 8.9x8.9mm, Pitch 1.27mm, IPC High Density)
pins: 1 I (in), 2 I (in), 3 I (in), 4 I (in), 5 I (in), 6 I (in), 7 I (in), 8 I (in), 9 I (in), 10 GND (power), 11 I (in), 12 O (hiz), 13 I/O (io), 14 I/O (io), 15 I/O (io), 16 I/O (io), 17 I/O (io), 18 I/O (io), 19 O (hiz), 20 VCC (power)

## PAL16L8A-2MJ
designator U?
Standard High-Speed PAL<R> Circuits, J0020A, TUBE; Generic Part Number: PAL16L8A-2M; Manufacturer: Texas Instruments; PartNumber: PAL16L8A-2MJ; Voltage Node(Nom)(V): 5; Rating: Military; DatasheetVersion: SRPS016; PackageReference: J0020A; Operating Temperature Range(C): -55 to 125; ComponentLink1Description: Manufacturer URL; ComponentLink1URL: http://www.ti.com/; ComponentLink2Description: Datasheet; ComponentLink2URL: http://www.ti.com/lit/ds/symlink/pal16l8a-2m.pdf
footprint J0020A (DIP, 20-Leads, Body 26.9x7.2mm, Pitch 2.54mm)
pins: 1 I (in), 2 I (in), 3 I (in), 4 I (in), 5 I (in), 6 I (in), 7 I (in), 8 I (in), 9 I (in), 10 GND (power), 11 I (in), 12 O (hiz), 13 I/O (io), 14 I/O (io), 15 I/O (io), 16 I/O (io), 17 I/O (io), 18 I/O (io), 19 O (hiz), 20 VCC (power)

## PAL16L8A-2MJB
designator U?
Standard High-Speed PAL<R> Circuits, J0020A, TUBE; Generic Part Number: PAL16L8A-2M; Manufacturer: Texas Instruments; PartNumber: PAL16L8A-2MJB; Voltage Node(Nom)(V): 5; Rating: Military; DatasheetVersion: SRPS016; PackageReference: J0020A; Operating Temperature Range(C): -55 to 125; ComponentLink1Description: Manufacturer URL; ComponentLink1URL: http://www.ti.com/; ComponentLink2Description: Datasheet; ComponentLink2URL: http://www.ti.com/lit/ds/symlink/pal16l8a-2m.pdf
footprint J0020A (DIP, 20-Leads, Body 26.9x7.2mm, Pitch 2.54mm)
pins: 1 I (in), 2 I (in), 3 I (in), 4 I (in), 5 I (in), 6 I (in), 7 I (in), 8 I (in), 9 I (in), 10 GND (power), 11 I (in), 12 O (hiz), 13 I/O (io), 14 I/O (io), 15 I/O (io), 16 I/O (io), 17 I/O (io), 18 I/O (io), 19 O (hiz), 20 VCC (power)

## PAL16L8A-2MWB
designator U?
Standard High-Speed PAL<R> Circuits, W0020A, TUBE; Generic Part Number: PAL16L8A-2M; Manufacturer: Texas Instruments; PartNumber: PAL16L8A-2MWB; Voltage Node(Nom)(V): 5; Rating: Military; DatasheetVersion: SRPS016; PackageReference: W0020A; Operating Temperature Range(C): -55 to 125; ComponentLink1Description: Manufacturer URL; ComponentLink1URL: http://www.ti.com/; ComponentLink2Description: Datasheet; ComponentLink2URL: http://www.ti.com/lit/ds/symlink/pal16l8a-2m.pdf
footprint W0020A_N (CFP, 20-Leads, Body 13.72x7.62mm, Pitch 1.27mm, IPC Medium Density)
footprint W0020A_M (CFP, 20-Leads, Body 13.72x7.62mm, Pitch 1.27mm, IPC Low Density)
footprint W0020A_L (CFP, 20-Leads, Body 13.72x7.62mm, Pitch 1.27mm, IPC High Density)
pins: 1 I (in), 2 I (in), 3 I (in), 4 I (in), 5 I (in), 6 I (in), 7 I (in), 8 I (in), 9 I (in), 10 GND (power), 11 I (in), 12 O (hiz), 13 I/O (io), 14 I/O (io), 15 I/O (io), 16 I/O (io), 17 I/O (io), 18 I/O (io), 19 O (hiz), 20 VCC (power)

## PAL16L8AMFKB
designator U?
Standard High-Speed PAL<R> Circuits, FK0020A, TUBE; Generic Part Number: PAL16L8AM; Manufacturer: Texas Instruments; PartNumber: PAL16L8AMFKB; Voltage Node(Nom)(V): 5; Rating: Military; DatasheetVersion: SRPS016; PackageReference: FK0020A; Operating Temperature Range(C): -55 to 125; Code_JEDEC: MS-004; ComponentLink1Description: Manufacturer URL; ComponentLink1URL: http://www.ti.com/; ComponentLink2Description: Datasheet; ComponentLink2URL: http://www.ti.com/lit/ds/symlink/pal16l8am.pdf; ComponentLink3Description: Package Specification; ComponentLink3URL: http://www.ti.com/lit/ml/mlcc006d/mlcc006d.pdf
footprint FK0020A_N (LCC, 20-Leads, Body 8.9x8.9mm, Pitch 1.27mm, IPC Medium Density)
footprint FK0020A_M (LCC, 20-Leads, Body 8.9x8.9mm, Pitch 1.27mm, IPC Low Density)
footprint FK0020A_L (LCC, 20-Leads, Body 8.9x8.9mm, Pitch 1.27mm, IPC High Density)
pins: 1 I (in), 2 I (in), 3 I (in), 4 I (in), 5 I (in), 6 I (in), 7 I (in), 8 I (in), 9 I (in), 10 GND (power), 11 I (in), 12 O (hiz), 13 I/O (io), 14 I/O (io), 15 I/O (io), 16 I/O (io), 17 I/O (io), 18 I/O (io), 19 O (hiz), 20 VCC (power)

## PAL16L8AMJ
designator U?
Standard High-Speed PAL<R> Circuits, J0020A, TUBE; Generic Part Number: PAL16L8AM; Manufacturer: Texas Instruments; PartNumber: PAL16L8AMJ; Voltage Node(Nom)(V): 5; Rating: Military; DatasheetVersion: SRPS016; PackageReference: J0020A; Operating Temperature Range(C): -55 to 125; ComponentLink1Description: Manufacturer URL; ComponentLink1URL: http://www.ti.com/; ComponentLink2Description: Datasheet; ComponentLink2URL: http://www.ti.com/lit/ds/symlink/pal16l8am.pdf
footprint J0020A (DIP, 20-Leads, Body 26.9x7.2mm, Pitch 2.54mm)
pins: 1 I (in), 2 I (in), 3 I (in), 4 I (in), 5 I (in), 6 I (in), 7 I (in), 8 I (in), 9 I (in), 10 GND (power), 11 I (in), 12 O (hiz), 13 I/O (io), 14 I/O (io), 15 I/O (io), 16 I/O (io), 17 I/O (io), 18 I/O (io), 19 O (hiz), 20 VCC (power)

## PAL16L8AMJB
designator U?
Standard High-Speed PAL<R> Circuits, J0020A, TUBE; Generic Part Number: PAL16L8AM; Manufacturer: Texas Instruments; PartNumber: PAL16L8AMJB; Voltage Node(Nom)(V): 5; Rating: Military; DatasheetVersion: SRPS016; PackageReference: J0020A; Operating Temperature Range(C): -55 to 125; ComponentLink1Description: Manufacturer URL; ComponentLink1URL: http://www.ti.com/; ComponentLink2Description: Datasheet; ComponentLink2URL: http://www.ti.com/lit/ds/symlink/pal16l8am.pdf
footprint J0020A (DIP, 20-Leads, Body 26.9x7.2mm, Pitch 2.54mm)
pins: 1 I (in), 2 I (in), 3 I (in), 4 I (in), 5 I (in), 6 I (in), 7 I (in), 8 I (in), 9 I (in), 10 GND (power), 11 I (in), 12 O (hiz), 13 I/O (io), 14 I/O (io), 15 I/O (io), 16 I/O (io), 17 I/O (io), 18 I/O (io), 19 O (hiz), 20 VCC (power)

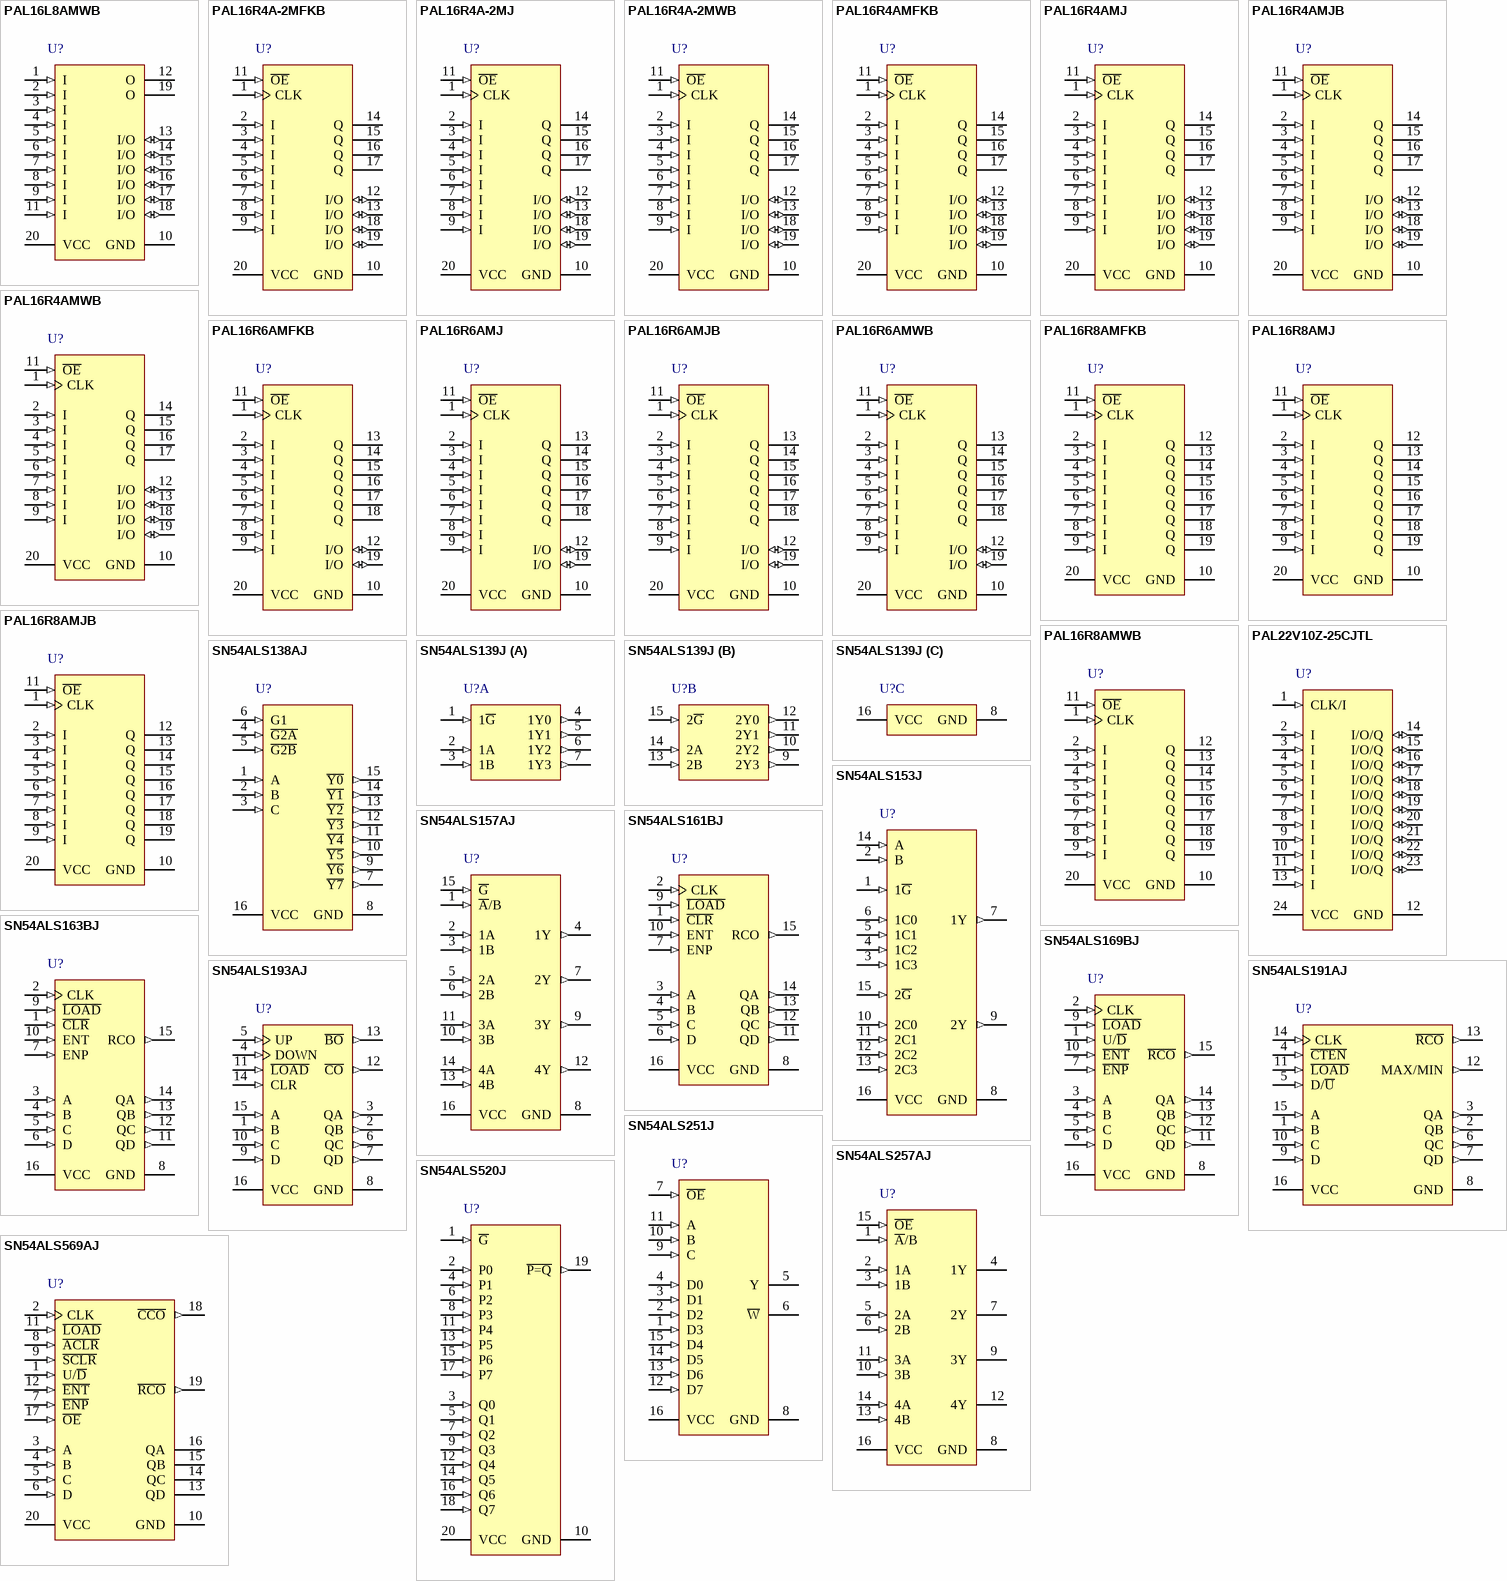
[diagram p42: symbols PAL16L8AMWB to SN54ALS569AJ]

## PAL16L8AMWB
designator U?
Standard High-Speed PAL<R> Circuits, W0020A, TUBE; Generic Part Number: PAL16L8AM; Manufacturer: Texas Instruments; PartNumber: PAL16L8AMWB; Voltage Node(Nom)(V): 5; Rating: Military; DatasheetVersion: SRPS016; PackageReference: W0020A; Operating Temperature Range(C): -55 to 125; ComponentLink1Description: Manufacturer URL; ComponentLink1URL: http://www.ti.com/; ComponentLink2Description: Datasheet; ComponentLink2URL: http://www.ti.com/lit/ds/symlink/pal16l8am.pdf
footprint W0020A_N (CFP, 20-Leads, Body 13.72x7.62mm, Pitch 1.27mm, IPC Medium Density)
footprint W0020A_M (CFP, 20-Leads, Body 13.72x7.62mm, Pitch 1.27mm, IPC Low Density)
footprint W0020A_L (CFP, 20-Leads, Body 13.72x7.62mm, Pitch 1.27mm, IPC High Density)
pins: 1 I (in), 2 I (in), 3 I (in), 4 I (in), 5 I (in), 6 I (in), 7 I (in), 8 I (in), 9 I (in), 10 GND (power), 11 I (in), 12 O (hiz), 13 I/O (io), 14 I/O (io), 15 I/O (io), 16 I/O (io), 17 I/O (io), 18 I/O (io), 19 O (hiz), 20 VCC (power)

## PAL16R4A-2MFKB
designator U?
Standard High-Speed PAL<R> Circuits, FK0020A, TUBE; Generic Part Number: PAL16R4A-2M; Manufacturer: Texas Instruments; PartNumber: PAL16R4A-2MFKB; Voltage Node(Nom)(V): 5; Rating: Military; DatasheetVersion: SRPS016; PackageReference: FK0020A; Operating Temperature Range(C): -55 to 125; Code_JEDEC: MS-004; ComponentLink1Description: Manufacturer URL; ComponentLink1URL: http://www.ti.com/; ComponentLink2Description: Datasheet; ComponentLink2URL: http://www.ti.com/lit/ds/symlink/pal16r4a-2m.pdf; ComponentLink3Description: Package Specification; ComponentLink3URL: http://www.ti.com/lit/ml/mlcc006d/mlcc006d.pdf
footprint FK0020A_N (LCC, 20-Leads, Body 8.9x8.9mm, Pitch 1.27mm, IPC Medium Density)
footprint FK0020A_M (LCC, 20-Leads, Body 8.9x8.9mm, Pitch 1.27mm, IPC Low Density)
footprint FK0020A_L (LCC, 20-Leads, Body 8.9x8.9mm, Pitch 1.27mm, IPC High Density)
pins: 1 CLK (in), 2 I (in), 3 I (in), 4 I (in), 5 I (in), 6 I (in), 7 I (in), 8 I (in), 9 I (in), 10 GND (power), 11 ~{OE} (in), 12 I/O (io), 13 I/O (io), 14 Q (hiz), 15 Q (hiz), 16 Q (hiz), 17 Q (hiz), 18 I/O (io), 19 I/O (io), 20 VCC (power)